# Altium integrated library ZMDI Battery Power Management.IntLib: 25 symbols
Pins are listed as number, name and electrical type; pins without a type are passive.

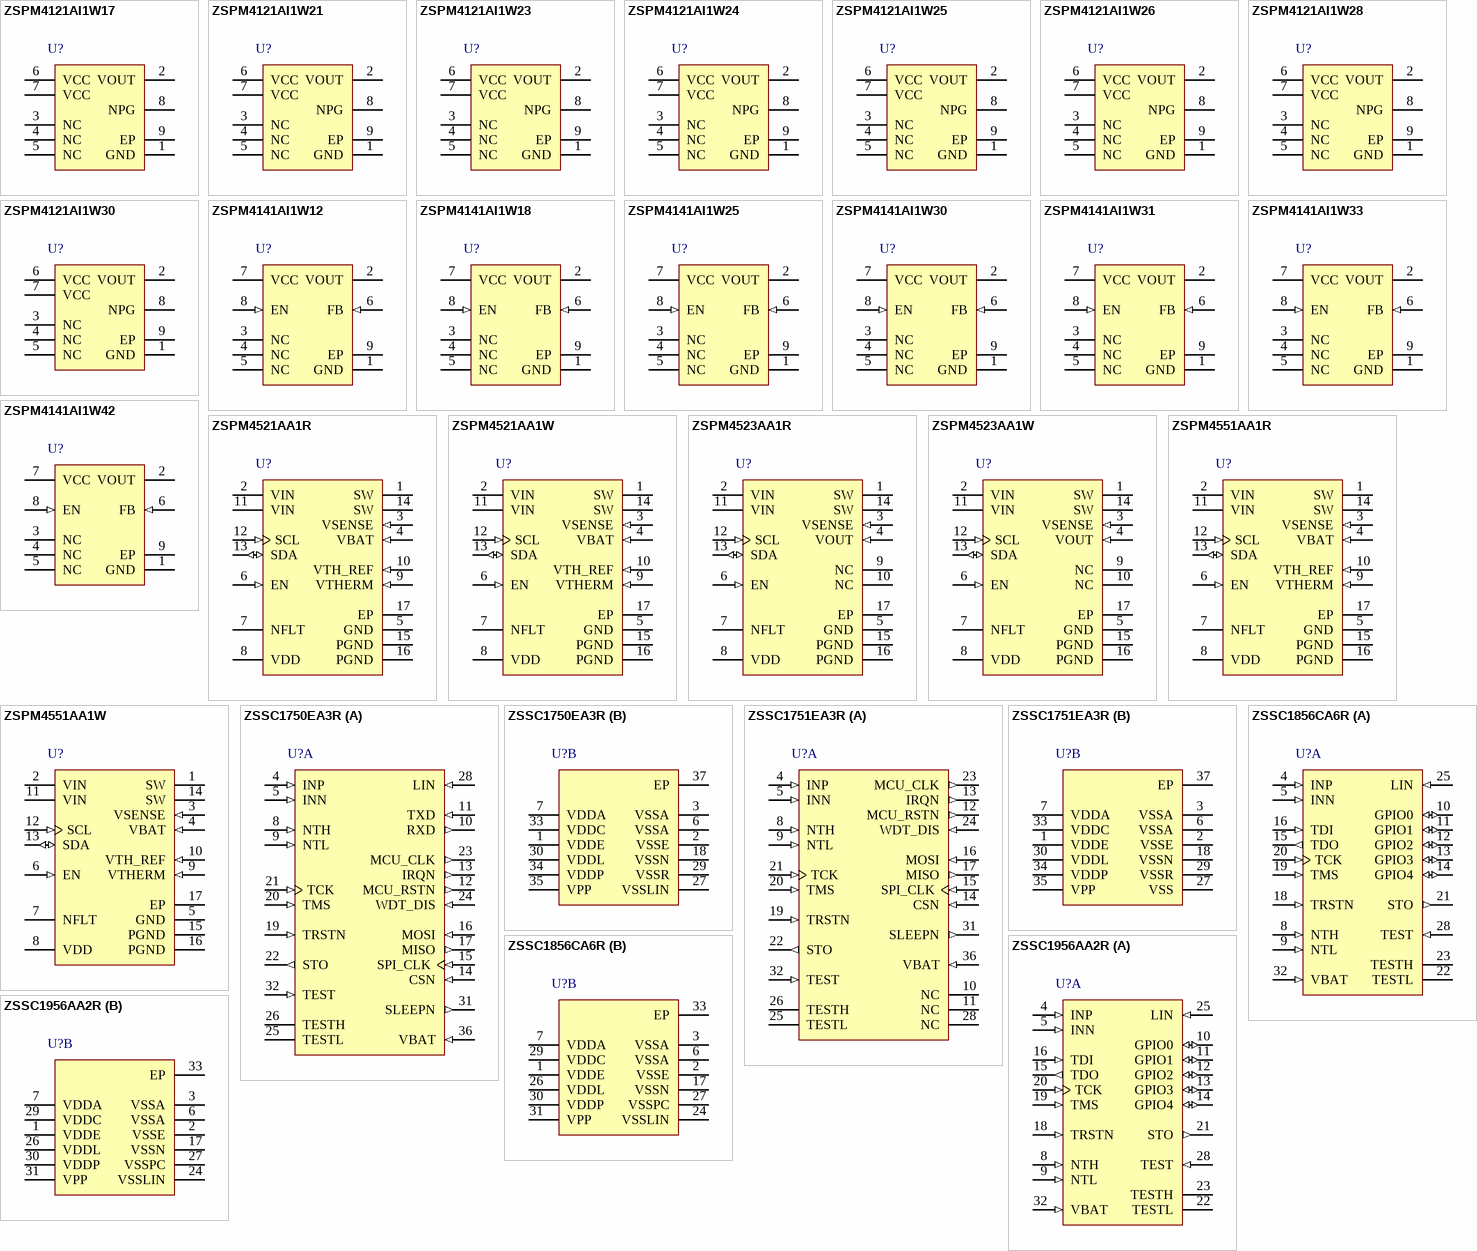
[diagram p0: symbols ZSPM4121AI1W17 to ZSSC1956AA2R]

## ZSPM4121AI1W17
designator U?
Under-Voltage Load Switch for Smart Battery Management, 1.2 to 5.5 V Vin, -20 to 85 degC, 8-Pin DFN, Reel, RoHS; Manufacturer: ZMDI; PartNumber: ZSPM4121AI1W17; Vin Max (V): 5.5; Vin Min (V): 1.2; DatasheetVersion: Rev. 1.01; PackageReference: DFN8; PackageDescription: 8-Pin Dual Flatpack No Leads, 2 x 2 mm Body, 0.5 mm Pitch, 1.7 x 0.9 mm Exposed Pad; Supplier 1: Farnell; Supplier Part Number 1: 2322446; Supplier 2: Newark; Supplier Part Number 2: 95W3775; Supplier 3: Mouser; Supplier Part Number 3: 964-ZSPM4121AI1W17; Packing: Reel; RoHS: TRUE; Mounting Technology: Surface Mount; ComponentLink1Description: Manufacturer URL; ComponentLink1URL: http://www.zmdi.com/; ComponentLink2Description: Datasheet; ComponentLink2URL: http://zmdi.cdistore.com/datasheets/zmdi/ZSPM4121_Data_Sheet_Rev_1_01_2013-02-07.pdf; ComponentLink3Description: Package Specification; ComponentLink3URL: http://zmdi.cdistore.com/datasheets/zmdi/ZSPM4121_Data_Sheet_Rev_1_01_2013-02-07.pdf
footprint ZMDI-DFN8_V (DFN, 8-Leads, Body 2x2mm, Pitch 0.5mm, Thermal Pad 1.7x0.9mm)
pins: 1 GND (power), 2 VOUT (power) "Output to system load", 3 NC "No connection (connect to GND or float)", 4 NC "No connection (connect to GND or float)", 5 NC "No connection (connect to GND or float)", 6 VCC (power) "Supply input (connect to pin 7 and VCC supply rail)", 7 VCC (power) "Supply input (connect to pin 6 and VCC supply rail)", 8 NPG (oc) "Open-drain N-channel output (low indicates “Power Good”)", 9 EP (power)

## ZSPM4121AI1W21
designator U?
Under-Voltage Load Switch for Smart Battery Management, 1.2 to 5.5 V Vin, -20 to 85 degC, 8-Pin DFN, Reel, RoHS; Manufacturer: ZMDI; PartNumber: ZSPM4121AI1W21; Vin Max (V): 5.5; Vin Min (V): 1.2; DatasheetVersion: Rev. 1.01; PackageReference: DFN8; PackageDescription: 8-Pin Dual Flatpack No Leads, 2 x 2 mm Body, 0.5 mm Pitch, 1.7 x 0.9 mm Exposed Pad; Supplier 1: Farnell; Supplier Part Number 1: 2322447; Supplier 2: Newark; Supplier Part Number 2: 95W3776; Supplier 3: Mouser; Supplier Part Number 3: 964-ZSPM4121AI1W21; Packing: Reel; RoHS: TRUE; Mounting Technology: Surface Mount; ComponentLink1Description: Manufacturer URL; ComponentLink1URL: http://www.zmdi.com/; ComponentLink2Description: Datasheet; ComponentLink2URL: http://zmdi.cdistore.com/datasheets/zmdi/ZSPM4121_Data_Sheet_Rev_1_01_2013-02-07.pdf; ComponentLink3Description: Package Specification; ComponentLink3URL: http://zmdi.cdistore.com/datasheets/zmdi/ZSPM4121_Data_Sheet_Rev_1_01_2013-02-07.pdf
footprint ZMDI-DFN8_V (DFN, 8-Leads, Body 2x2mm, Pitch 0.5mm, Thermal Pad 1.7x0.9mm)
pins: 1 GND (power), 2 VOUT (power) "Output to system load", 3 NC "No connection (connect to GND or float)", 4 NC "No connection (connect to GND or float)", 5 NC "No connection (connect to GND or float)", 6 VCC (power) "Supply input (connect to pin 7 and VCC supply rail)", 7 VCC (power) "Supply input (connect to pin 6 and VCC supply rail)", 8 NPG (oc) "Open-drain N-channel output (low indicates “Power Good”)", 9 EP (power)

## ZSPM4121AI1W23
designator U?
Under-Voltage Load Switch for Smart Battery Management, 1.2 to 5.5 V Vin, -20 to 85 degC, 8-Pin DFN, Reel, RoHS; Manufacturer: ZMDI; PartNumber: ZSPM4121AI1W23; Vin Max (V): 5.5; Vin Min (V): 1.2; DatasheetVersion: Rev. 1.01; PackageReference: DFN8; PackageDescription: 8-Pin Dual Flatpack No Leads, 2 x 2 mm Body, 0.5 mm Pitch, 1.7 x 0.9 mm Exposed Pad; Supplier 1: Mouser; Supplier Part Number 1: 964-ZSPM4121AI1W23; Packing: Reel; RoHS: TRUE; Mounting Technology: Surface Mount; ComponentLink1Description: Manufacturer URL; ComponentLink1URL: http://www.zmdi.com/; ComponentLink2Description: Datasheet; ComponentLink2URL: http://zmdi.cdistore.com/datasheets/zmdi/ZSPM4121_Data_Sheet_Rev_1_01_2013-02-07.pdf; ComponentLink3Description: Package Specification; ComponentLink3URL: http://zmdi.cdistore.com/datasheets/zmdi/ZSPM4121_Data_Sheet_Rev_1_01_2013-02-07.pdf
footprint ZMDI-DFN8_V (DFN, 8-Leads, Body 2x2mm, Pitch 0.5mm, Thermal Pad 1.7x0.9mm)
pins: 1 GND (power), 2 VOUT (power) "Output to system load", 3 NC "No connection (connect to GND or float)", 4 NC "No connection (connect to GND or float)", 5 NC "No connection (connect to GND or float)", 6 VCC (power) "Supply input (connect to pin 7 and VCC supply rail)", 7 VCC (power) "Supply input (connect to pin 6 and VCC supply rail)", 8 NPG (oc) "Open-drain N-channel output (low indicates “Power Good”)", 9 EP (power)

## ZSPM4121AI1W24
designator U?
Under-Voltage Load Switch for Smart Battery Management, 1.2 to 5.5 V Vin, -20 to 85 degC, 8-Pin DFN, Reel, RoHS; Manufacturer: ZMDI; PartNumber: ZSPM4121AI1W24; Vin Max (V): 5.5; Vin Min (V): 1.2; DatasheetVersion: Rev. 1.01; PackageReference: DFN8; PackageDescription: 8-Pin Dual Flatpack No Leads, 2 x 2 mm Body, 0.5 mm Pitch, 1.7 x 0.9 mm Exposed Pad; Supplier 1: Mouser; Supplier Part Number 1: 964-ZSPM4121AI1W24; Packing: Reel; RoHS: TRUE; Mounting Technology: Surface Mount; ComponentLink1Description: Manufacturer URL; ComponentLink1URL: http://www.zmdi.com/; ComponentLink2Description: Datasheet; ComponentLink2URL: http://zmdi.cdistore.com/datasheets/zmdi/ZSPM4121_Data_Sheet_Rev_1_01_2013-02-07.pdf; ComponentLink3Description: Package Specification; ComponentLink3URL: http://zmdi.cdistore.com/datasheets/zmdi/ZSPM4121_Data_Sheet_Rev_1_01_2013-02-07.pdf
footprint ZMDI-DFN8_V (DFN, 8-Leads, Body 2x2mm, Pitch 0.5mm, Thermal Pad 1.7x0.9mm)
pins: 1 GND (power), 2 VOUT (power) "Output to system load", 3 NC "No connection (connect to GND or float)", 4 NC "No connection (connect to GND or float)", 5 NC "No connection (connect to GND or float)", 6 VCC (power) "Supply input (connect to pin 7 and VCC supply rail)", 7 VCC (power) "Supply input (connect to pin 6 and VCC supply rail)", 8 NPG (oc) "Open-drain N-channel output (low indicates “Power Good”)", 9 EP (power)

## ZSPM4121AI1W25
designator U?
Under-Voltage Load Switch for Smart Battery Management, 1.2 to 5.5 V Vin, -20 to 85 degC, 8-Pin DFN, Reel, RoHS; Manufacturer: ZMDI; PartNumber: ZSPM4121AI1W25; Vin Max (V): 5.5; Vin Min (V): 1.2; DatasheetVersion: Rev. 1.01; PackageReference: DFN8; PackageDescription: 8-Pin Dual Flatpack No Leads, 2 x 2 mm Body, 0.5 mm Pitch, 1.7 x 0.9 mm Exposed Pad; Supplier 1: Mouser; Supplier Part Number 1: 964-ZSPM4121AI1W25; Packing: Reel; RoHS: TRUE; Mounting Technology: Surface Mount; ComponentLink1Description: Manufacturer URL; ComponentLink1URL: http://www.zmdi.com/; ComponentLink2Description: Datasheet; ComponentLink2URL: http://zmdi.cdistore.com/datasheets/zmdi/ZSPM4121_Data_Sheet_Rev_1_01_2013-02-07.pdf; ComponentLink3Description: Package Specification; ComponentLink3URL: http://zmdi.cdistore.com/datasheets/zmdi/ZSPM4121_Data_Sheet_Rev_1_01_2013-02-07.pdf
footprint ZMDI-DFN8_V (DFN, 8-Leads, Body 2x2mm, Pitch 0.5mm, Thermal Pad 1.7x0.9mm)
pins: 1 GND (power), 2 VOUT (power) "Output to system load", 3 NC "No connection (connect to GND or float)", 4 NC "No connection (connect to GND or float)", 5 NC "No connection (connect to GND or float)", 6 VCC (power) "Supply input (connect to pin 7 and VCC supply rail)", 7 VCC (power) "Supply input (connect to pin 6 and VCC supply rail)", 8 NPG (oc) "Open-drain N-channel output (low indicates “Power Good”)", 9 EP (power)

## ZSPM4121AI1W26
designator U?
Under-Voltage Load Switch for Smart Battery Management, 1.2 to 5.5 V Vin, -20 to 85 degC, 8-Pin DFN, Reel, RoHS; Manufacturer: ZMDI; PartNumber: ZSPM4121AI1W26; Vin Max (V): 5.5; Vin Min (V): 1.2; DatasheetVersion: Rev. 1.01; PackageReference: DFN8; PackageDescription: 8-Pin Dual Flatpack No Leads, 2 x 2 mm Body, 0.5 mm Pitch, 1.7 x 0.9 mm Exposed Pad; Supplier 1: Mouser; Supplier Part Number 1: 964-ZSPM4121AI1W26; Packing: Reel; RoHS: TRUE; Mounting Technology: Surface Mount; ComponentLink1Description: Manufacturer URL; ComponentLink1URL: http://www.zmdi.com/; ComponentLink2Description: Datasheet; ComponentLink2URL: http://zmdi.cdistore.com/datasheets/zmdi/ZSPM4121_Data_Sheet_Rev_1_01_2013-02-07.pdf; ComponentLink3Description: Package Specification; ComponentLink3URL: http://zmdi.cdistore.com/datasheets/zmdi/ZSPM4121_Data_Sheet_Rev_1_01_2013-02-07.pdf
footprint ZMDI-DFN8_V (DFN, 8-Leads, Body 2x2mm, Pitch 0.5mm, Thermal Pad 1.7x0.9mm)
pins: 1 GND (power), 2 VOUT (power) "Output to system load", 3 NC "No connection (connect to GND or float)", 4 NC "No connection (connect to GND or float)", 5 NC "No connection (connect to GND or float)", 6 VCC (power) "Supply input (connect to pin 7 and VCC supply rail)", 7 VCC (power) "Supply input (connect to pin 6 and VCC supply rail)", 8 NPG (oc) "Open-drain N-channel output (low indicates “Power Good”)", 9 EP (power)

## ZSPM4121AI1W28
designator U?
Under-Voltage Load Switch for Smart Battery Management, 1.2 to 5.5 V Vin, -20 to 85 degC, 8-Pin DFN, Reel, RoHS; Manufacturer: ZMDI; PartNumber: ZSPM4121AI1W28; Vin Max (V): 5.5; Vin Min (V): 1.2; DatasheetVersion: Rev. 1.01; PackageReference: DFN8; PackageDescription: 8-Pin Dual Flatpack No Leads, 2 x 2 mm Body, 0.5 mm Pitch, 1.7 x 0.9 mm Exposed Pad; Supplier 1: Mouser; Supplier Part Number 1: 964-ZSPM4121AI1W28; Packing: Reel; RoHS: TRUE; Mounting Technology: Surface Mount; ComponentLink1Description: Manufacturer URL; ComponentLink1URL: http://www.zmdi.com/; ComponentLink2Description: Datasheet; ComponentLink2URL: http://zmdi.cdistore.com/datasheets/zmdi/ZSPM4121_Data_Sheet_Rev_1_01_2013-02-07.pdf; ComponentLink3Description: Package Specification; ComponentLink3URL: http://zmdi.cdistore.com/datasheets/zmdi/ZSPM4121_Data_Sheet_Rev_1_01_2013-02-07.pdf
footprint ZMDI-DFN8_V (DFN, 8-Leads, Body 2x2mm, Pitch 0.5mm, Thermal Pad 1.7x0.9mm)
pins: 1 GND (power), 2 VOUT (power) "Output to system load", 3 NC "No connection (connect to GND or float)", 4 NC "No connection (connect to GND or float)", 5 NC "No connection (connect to GND or float)", 6 VCC (power) "Supply input (connect to pin 7 and VCC supply rail)", 7 VCC (power) "Supply input (connect to pin 6 and VCC supply rail)", 8 NPG (oc) "Open-drain N-channel output (low indicates “Power Good”)", 9 EP (power)

## ZSPM4121AI1W30
designator U?
Under-Voltage Load Switch for Smart Battery Management, 1.2 to 5.5 V Vin, -20 to 85 degC, 8-Pin DFN, Reel, RoHS; Manufacturer: ZMDI; PartNumber: ZSPM4121AI1W30; Vin Max (V): 5.5; Vin Min (V): 1.2; DatasheetVersion: Rev. 1.01; PackageReference: DFN8; PackageDescription: 8-Pin Dual Flatpack No Leads, 2 x 2 mm Body, 0.5 mm Pitch, 1.7 x 0.9 mm Exposed Pad; Supplier 1: Farnell; Supplier Part Number 1: 2322448; Supplier 2: Newark; Supplier Part Number 2: 95W3777; Supplier 3: Mouser; Supplier Part Number 3: 964-ZSPM4121AI1W30; Packing: Reel; RoHS: TRUE; Mounting Technology: Surface Mount; ComponentLink1Description: Manufacturer URL; ComponentLink1URL: http://www.zmdi.com/; ComponentLink2Description: Datasheet; ComponentLink2URL: http://zmdi.cdistore.com/datasheets/zmdi/ZSPM4121_Data_Sheet_Rev_1_01_2013-02-07.pdf; ComponentLink3Description: Package Specification; ComponentLink3URL: http://zmdi.cdistore.com/datasheets/zmdi/ZSPM4121_Data_Sheet_Rev_1_01_2013-02-07.pdf
footprint ZMDI-DFN8_V (DFN, 8-Leads, Body 2x2mm, Pitch 0.5mm, Thermal Pad 1.7x0.9mm)
pins: 1 GND (power), 2 VOUT (power) "Output to system load", 3 NC "No connection (connect to GND or float)", 4 NC "No connection (connect to GND or float)", 5 NC "No connection (connect to GND or float)", 6 VCC (power) "Supply input (connect to pin 7 and VCC supply rail)", 7 VCC (power) "Supply input (connect to pin 6 and VCC supply rail)", 8 NPG (oc) "Open-drain N-channel output (low indicates “Power Good”)", 9 EP (power)

## ZSPM4141AI1W12
designator U?
Ultra-Low-Power Linear Regulator with Minimal Quiescent Current Technology, 2.5 to 5.5 V Operating Voltage, -20 to 85 degC, 8-Pin DFN, Reel, RoHS; Manufacturer: ZMDI; PartNumber: ZSPM4141AI1W12; Over-Current Protection: 250 mA; DatasheetVersion: Rev. 2.00; PackageReference: DFN8; PackageDescription: 8-Pin Dual Flatpack No Leads, 2 x 2 mm Body, 0.5 mm Pitch, 1.7 x 0.9 mm Exposed Pad; Supplier 1: Farnell; Supplier Part Number 1: 2322441; Supplier 2: Newark; Supplier Part Number 2: 95W3778; Supplier 3: Mouser; Supplier Part Number 3: 964-ZSPM4141AI1W12; Low Operating Voltage Range: 2.5 to 5.5 V; Packing: Reel; RoHS: TRUE; Mounting Technology: Surface Mount; ComponentLink1Description: Manufacturer URL; ComponentLink1URL: http://www.zmdi.com/; ComponentLink2Description: Datasheet; ComponentLink2URL: http://www.zmdi.com/sites/default/files/ZSPM4141_Data_Sheet_Rev_2_00_2013-01-11.pdf; ComponentLink3Description: Package Specification; ComponentLink3URL: http://zmdi.cdistore.com/datasheets/zmdi/ZSPM4121_Data_Sheet_Rev_1_01_2013-02-07.pdf
footprint ZMDI-DFN8_V (DFN, 8-Leads, Body 2x2mm, Pitch 0.5mm, Thermal Pad 1.7x0.9mm)
pins: 1 GND (power), 2 VOUT (power) "Regulated Output Voltage", 3 NC "No Connection (connect to GND or float)", 4 NC "No Connection (connect to GND or float)", 5 NC "No Connection (connect to GND or float)", 6 FB (in) "Feedback Input", 7 VCC (power) "Input Power", 8 EN (in) "Enable Input", 9 EP (power)

## ZSPM4141AI1W18
designator U?
Ultra-Low-Power Linear Regulator with Minimal Quiescent Current Technology, 2.5 to 5.5 V Operating Voltage, -20 to 85 degC, 8-Pin DFN, Reel, RoHS; Manufacturer: ZMDI; PartNumber: ZSPM4141AI1W18; Over-Current Protection: 250 mA; DatasheetVersion: Rev. 2.00; PackageReference: DFN8; PackageDescription: 8-Pin Dual Flatpack No Leads, 2 x 2 mm Body, 0.5 mm Pitch, 1.7 x 0.9 mm Exposed Pad; Supplier 1: Farnell; Supplier Part Number 1: 2322442; Supplier 2: Newark; Supplier Part Number 2: 95W3779; Supplier 3: Mouser; Supplier Part Number 3: 964-ZSPM4141AI1W18; Low Operating Voltage Range: 2.5 to 5.5 V; Packing: Reel; RoHS: TRUE; Mounting Technology: Surface Mount; ComponentLink1Description: Manufacturer URL; ComponentLink1URL: http://www.zmdi.com/; ComponentLink2Description: Datasheet; ComponentLink2URL: http://www.zmdi.com/sites/default/files/ZSPM4141_Data_Sheet_Rev_2_00_2013-01-11.pdf; ComponentLink3Description: Package Specification; ComponentLink3URL: http://zmdi.cdistore.com/datasheets/zmdi/ZSPM4121_Data_Sheet_Rev_1_01_2013-02-07.pdf
footprint ZMDI-DFN8_V (DFN, 8-Leads, Body 2x2mm, Pitch 0.5mm, Thermal Pad 1.7x0.9mm)
pins: 1 GND (power), 2 VOUT (power) "Regulated Output Voltage", 3 NC "No Connection (connect to GND or float)", 4 NC "No Connection (connect to GND or float)", 5 NC "No Connection (connect to GND or float)", 6 FB (in) "Feedback Input", 7 VCC (power) "Input Power", 8 EN (in) "Enable Input", 9 EP (power)

## ZSPM4141AI1W25
designator U?
Ultra-Low-Power Linear Regulator with Minimal Quiescent Current Technology, 2.5 to 5.5 V Operating Voltage, -20 to 85 degC, 8-Pin DFN, Reel, RoHS; Manufacturer: ZMDI; PartNumber: ZSPM4141AI1W25; Over-Current Protection: 250 mA; DatasheetVersion: Rev. 2.00; PackageReference: DFN8; PackageDescription: 8-Pin Dual Flatpack No Leads, 2 x 2 mm Body, 0.5 mm Pitch, 1.7 x 0.9 mm Exposed Pad; Supplier 1: Farnell; Supplier Part Number 1: 2322443; Supplier 2: Newark; Supplier Part Number 2: 95W3780; Supplier 3: Mouser; Supplier Part Number 3: 964-ZSPM4141AI1W25; Low Operating Voltage Range: 2.5 to 5.5 V; Packing: Reel; RoHS: TRUE; Mounting Technology: Surface Mount; ComponentLink1Description: Manufacturer URL; ComponentLink1URL: http://www.zmdi.com/; ComponentLink2Description: Datasheet; ComponentLink2URL: http://www.zmdi.com/sites/default/files/ZSPM4141_Data_Sheet_Rev_2_00_2013-01-11.pdf; ComponentLink3Description: Package Specification; ComponentLink3URL: http://zmdi.cdistore.com/datasheets/zmdi/ZSPM4121_Data_Sheet_Rev_1_01_2013-02-07.pdf
footprint ZMDI-DFN8_V (DFN, 8-Leads, Body 2x2mm, Pitch 0.5mm, Thermal Pad 1.7x0.9mm)
pins: 1 GND (power), 2 VOUT (power) "Regulated Output Voltage", 3 NC "No Connection (connect to GND or float)", 4 NC "No Connection (connect to GND or float)", 5 NC "No Connection (connect to GND or float)", 6 FB (in) "Feedback Input", 7 VCC (power) "Input Power", 8 EN (in) "Enable Input", 9 EP (power)

## ZSPM4141AI1W30
designator U?
Ultra-Low-Power Linear Regulator with Minimal Quiescent Current Technology, 2.5 to 5.5 V Operating Voltage, -20 to 85 degC, 8-Pin DFN, Reel, RoHS; Manufacturer: ZMDI; PartNumber: ZSPM4141AI1W30; Over-Current Protection: 250 mA; DatasheetVersion: Rev. 2.00; PackageReference: DFN8; PackageDescription: 8-Pin Dual Flatpack No Leads, 2 x 2 mm Body, 0.5 mm Pitch, 1.7 x 0.9 mm Exposed Pad; Low Operating Voltage Range: 2.5 to 5.5 V; Packing: Reel; RoHS: TRUE; Mounting Technology: Surface Mount; ComponentLink1Description: Manufacturer URL; ComponentLink1URL: http://www.zmdi.com/; ComponentLink2Description: Datasheet; ComponentLink2URL: http://www.zmdi.com/sites/default/files/ZSPM4141_Data_Sheet_Rev_2_00_2013-01-11.pdf; ComponentLink3Description: Package Specification; ComponentLink3URL: http://zmdi.cdistore.com/datasheets/zmdi/ZSPM4121_Data_Sheet_Rev_1_01_2013-02-07.pdf
footprint ZMDI-DFN8_V (DFN, 8-Leads, Body 2x2mm, Pitch 0.5mm, Thermal Pad 1.7x0.9mm)
pins: 1 GND (power), 2 VOUT (power) "Regulated Output Voltage", 3 NC "No Connection (connect to GND or float)", 4 NC "No Connection (connect to GND or float)", 5 NC "No Connection (connect to GND or float)", 6 FB (in) "Feedback Input", 7 VCC (power) "Input Power", 8 EN (in) "Enable Input", 9 EP (power)

## ZSPM4141AI1W31
designator U?
Ultra-Low-Power Linear Regulator with Minimal Quiescent Current Technology, 2.5 to 5.5 V Operating Voltage, -20 to 85 degC, 8-Pin DFN, Reel, RoHS; Manufacturer: ZMDI; PartNumber: ZSPM4141AI1W31; Over-Current Protection: 250 mA; DatasheetVersion: Rev. 2.00; PackageReference: DFN8; PackageDescription: 8-Pin Dual Flatpack No Leads, 2 x 2 mm Body, 0.5 mm Pitch, 1.7 x 0.9 mm Exposed Pad; Low Operating Voltage Range: 2.5 to 5.5 V; Packing: Reel; RoHS: TRUE; Mounting Technology: Surface Mount; ComponentLink1Description: Manufacturer URL; ComponentLink1URL: http://www.zmdi.com/; ComponentLink2Description: Datasheet; ComponentLink2URL: http://www.zmdi.com/sites/default/files/ZSPM4141_Data_Sheet_Rev_2_00_2013-01-11.pdf; ComponentLink3Description: Package Specification; ComponentLink3URL: http://zmdi.cdistore.com/datasheets/zmdi/ZSPM4121_Data_Sheet_Rev_1_01_2013-02-07.pdf
footprint ZMDI-DFN8_V (DFN, 8-Leads, Body 2x2mm, Pitch 0.5mm, Thermal Pad 1.7x0.9mm)
pins: 1 GND (power), 2 VOUT (power) "Regulated Output Voltage", 3 NC "No Connection (connect to GND or float)", 4 NC "No Connection (connect to GND or float)", 5 NC "No Connection (connect to GND or float)", 6 FB (in) "Feedback Input", 7 VCC (power) "Input Power", 8 EN (in) "Enable Input", 9 EP (power)

## ZSPM4141AI1W33
designator U?
Ultra-Low-Power Linear Regulator with Minimal Quiescent Current Technology, 2.5 to 5.5 V Operating Voltage, -20 to 85 degC, 8-Pin DFN, Reel, RoHS; Manufacturer: ZMDI; PartNumber: ZSPM4141AI1W33; Over-Current Protection: 250 mA; DatasheetVersion: Rev. 2.00; PackageReference: DFN8; PackageDescription: 8-Pin Dual Flatpack No Leads, 2 x 2 mm Body, 0.5 mm Pitch, 1.7 x 0.9 mm Exposed Pad; Supplier 1: Farnell; Supplier Part Number 1: 2322445; Supplier 2: Newark; Supplier Part Number 2: 95W3781; Supplier 3: Mouser; Supplier Part Number 3: 964-ZSPM4141AI1W33; Low Operating Voltage Range: 2.5 to 5.5 V; Packing: Reel; RoHS: TRUE; Mounting Technology: Surface Mount; ComponentLink1Description: Manufacturer URL; ComponentLink1URL: http://www.zmdi.com/; ComponentLink2Description: Datasheet; ComponentLink2URL: http://www.zmdi.com/sites/default/files/ZSPM4141_Data_Sheet_Rev_2_00_2013-01-11.pdf; ComponentLink3Description: Package Specification; ComponentLink3URL: http://zmdi.cdistore.com/datasheets/zmdi/ZSPM4121_Data_Sheet_Rev_1_01_2013-02-07.pdf
footprint ZMDI-DFN8_V (DFN, 8-Leads, Body 2x2mm, Pitch 0.5mm, Thermal Pad 1.7x0.9mm)
pins: 1 GND (power), 2 VOUT (power) "Regulated Output Voltage", 3 NC "No Connection (connect to GND or float)", 4 NC "No Connection (connect to GND or float)", 5 NC "No Connection (connect to GND or float)", 6 FB (in) "Feedback Input", 7 VCC (power) "Input Power", 8 EN (in) "Enable Input", 9 EP (power)

## ZSPM4141AI1W42
designator U?
Ultra-Low-Power Linear Regulator with Minimal Quiescent Current Technology, 2.5 to 5.5 V Operating Voltage, -20 to 85 degC, 8-Pin DFN, Reel, RoHS; Manufacturer: ZMDI; PartNumber: ZSPM4141AI1W42; Over-Current Protection: 250 mA; DatasheetVersion: Rev. 2.00; PackageReference: DFN8; PackageDescription: 8-Pin Dual Flatpack No Leads, 2 x 2 mm Body, 0.5 mm Pitch, 1.7 x 0.9 mm Exposed Pad; Supplier 1: Mouser; Supplier Part Number 1: 964-ZSPM4141AI1W42; Low Operating Voltage Range: 2.5 to 5.5 V; Packing: Reel; RoHS: TRUE; Mounting Technology: Surface Mount; ComponentLink1Description: Manufacturer URL; ComponentLink1URL: http://www.zmdi.com/; ComponentLink2Description: Datasheet; ComponentLink2URL: http://www.zmdi.com/sites/default/files/ZSPM4141_Data_Sheet_Rev_2_00_2013-01-11.pdf; ComponentLink3Description: Package Specification; ComponentLink3URL: http://zmdi.cdistore.com/datasheets/zmdi/ZSPM4121_Data_Sheet_Rev_1_01_2013-02-07.pdf
footprint ZMDI-DFN8_V (DFN, 8-Leads, Body 2x2mm, Pitch 0.5mm, Thermal Pad 1.7x0.9mm)
pins: 1 GND (power), 2 VOUT (power) "Regulated Output Voltage", 3 NC "No Connection (connect to GND or float)", 4 NC "No Connection (connect to GND or float)", 5 NC "No Connection (connect to GND or float)", 6 FB (in) "Feedback Input", 7 VCC (power) "Input Power", 8 EN (in) "Enable Input", 9 EP (power)

## ZSPM4521AA1R
designator U?
High-Efficiency Charger for Li-Ion Batteries with Photovoltaic Sources, 4 to 7.2 V Vin, -40 to 125 degC, 16-Pin PQFN, Reel, RoHS; Manufacturer: ZMDI; PartNumber: ZSPM4521AA1R; Max Charge Current (A): 0.05 to 1.5; Type of Charger: Switching; Vin Max (V): 7.2; Vin Min (V): 4; DatasheetVersion: Rev. 1.00; PackageReference: PQFN16; PackageDescription: 16-Pin Plastic Quad Flatpack, No Leads, 4 x 4 mm Body, 0.65 mm Pitch, 2.7 x 2.7 mm Exposed Pad; Supplier 1: Mouser; Supplier Part Number 1: 964-ZSPM4521AA1R; Battery Chemistry: Li-Ion; Packing: Reel; RoHS: TRUE; Mounting Technology: Surface Mount; ComponentLink1Description: Manufacturer URL; ComponentLink1URL: http://www.zmdi.com/; ComponentLink2Description: Datasheet; ComponentLink2URL: http://zmdi.cdistore.com/datasheets/zmdi/ZSPM4521_Data_Sheet_rev_1_00_2013-02-14.pdf; ComponentLink3Description: Package Specification; ComponentLink3URL: http://www.zmdi.com/sites/default/files/ZSPM4551_Data_Sheet_rev_1_00.pdf
footprint ZMDI-PQFN16_N (QFN, 16-Leads, Body 4.00x4.00mm, Pitch 0.65mm, Thermal Pad 2.68x2.68mm, IPC Medium Density)
footprint ZMDI-PQFN16_L (QFN, 16-Leads, Body 4.00x4.00mm, Pitch 0.65mm, Thermal Pad 2.68x2.68mm, IPC High Density)
footprint ZMDI-PQFN16_M (QFN, 16-Leads, Body 4.00x4.00mm, Pitch 0.65mm, Thermal Pad 2.68x2.68mm, IPC Low Density)
pins: 1 SW (power) "Connect to 4.7uH (typical) inductor LOUT. Also connect to additional SW pin 14.", 2 VIN (power) "Input voltage. Also connect to CIN. Also connect to additional VIN pin 11.", 3 VSENSE (in) "Positive input for the current loop.", 4 VBAT (in) "Regulator feedback input.", 5 GND (power) "Primary ground for the majority of the device except the low-side power FET.", 6 EN (in) "When EN is high (>= 2.2V), the device is enabled. Ground the pin to disable the device. Includes internal pull-up.", 7 NFLT (hiz) "Open-drain output.", 8 VDD (power) "Connect to a 100nF capacitor to GND.", 9 VTHERM (in) "Negative node for the thermistor, which must be located in close proximity to the battery.", 10 VTH_REF (in) "Positive node for the thermistor, which must be located in close proximity to the battery.", 11 VIN (power) "Additional VIN pin for input voltage; connect to VIN pin 2.", 12 SCL (in) "I2C? clock input.", 13 SDA (io) "I2C? data (open-drain output).", 14 SW (power) "Additional SW pin; connect to SW pin 1.", 15 PGND (power) "GND supply for internal low-side FET/integrated diode. Also connect to additional PGND pin 16.", 16 PGND (power) "GND supply for internal low-side FET/integrated diode. Also connect to additional PGND pin 15.", 17 EP (power)

## ZSPM4521AA1W
designator U?
High-Efficiency Charger for Li-Ion Batteries with Photovoltaic Sources, 4 to 7.2 V Vin, -40 to 125 degC, 16-Pin PQFN, Reel, RoHS; Manufacturer: ZMDI; PartNumber: ZSPM4521AA1W; Max Charge Current (A): 0.05 to 1.5; Type of Charger: Switching; Vin Max (V): 7.2; Vin Min (V): 4; DatasheetVersion: Rev. 1.00; PackageReference: PQFN16; PackageDescription: 16-Pin Plastic Quad Flatpack, No Leads, 4 x 4 mm Body, 0.65 mm Pitch, 2.7 x 2.7 mm Exposed Pad; Supplier 1: Farnell; Supplier Part Number 1: 2322438; Supplier 2: Newark; Supplier Part Number 2: 05X0152; Supplier 3: Mouser; Supplier Part Number 3: 964-ZSPM4521AA1W; Battery Chemistry: Li-Ion; Packing: Reel; RoHS: TRUE; Mounting Technology: Surface Mount; ComponentLink1Description: Manufacturer URL; ComponentLink1URL: http://www.zmdi.com/; ComponentLink2Description: Datasheet; ComponentLink2URL: http://zmdi.cdistore.com/datasheets/zmdi/ZSPM4521_Data_Sheet_rev_1_00_2013-02-14.pdf; ComponentLink3Description: Package Specification; ComponentLink3URL: http://www.zmdi.com/sites/default/files/ZSPM4551_Data_Sheet_rev_1_00.pdf
footprint ZMDI-PQFN16_N (QFN, 16-Leads, Body 4.00x4.00mm, Pitch 0.65mm, Thermal Pad 2.68x2.68mm, IPC Medium Density)
footprint ZMDI-PQFN16_L (QFN, 16-Leads, Body 4.00x4.00mm, Pitch 0.65mm, Thermal Pad 2.68x2.68mm, IPC High Density)
footprint ZMDI-PQFN16_M (QFN, 16-Leads, Body 4.00x4.00mm, Pitch 0.65mm, Thermal Pad 2.68x2.68mm, IPC Low Density)
pins: 1 SW (power) "Connect to 4.7uH (typical) inductor LOUT. Also connect to additional SW pin 14.", 2 VIN (power) "Input voltage. Also connect to CIN. Also connect to additional VIN pin 11.", 3 VSENSE (in) "Positive input for the current loop.", 4 VBAT (in) "Regulator feedback input.", 5 GND (power) "Primary ground for the majority of the device except the low-side power FET.", 6 EN (in) "When EN is high (>= 2.2V), the device is enabled. Ground the pin to disable the device. Includes internal pull-up.", 7 NFLT (hiz) "Open-drain output.", 8 VDD (power) "Connect to a 100nF capacitor to GND.", 9 VTHERM (in) "Negative node for the thermistor, which must be located in close proximity to the battery.", 10 VTH_REF (in) "Positive node for the thermistor, which must be located in close proximity to the battery.", 11 VIN (power) "Additional VIN pin for input voltage; connect to VIN pin 2.", 12 SCL (in) "I2C? clock input.", 13 SDA (io) "I2C? data (open-drain output).", 14 SW (power) "Additional SW pin; connect to SW pin 1.", 15 PGND (power) "GND supply for internal low-side FET/integrated diode. Also connect to additional PGND pin 16.", 16 PGND (power) "GND supply for internal low-side FET/integrated diode. Also connect to additional PGND pin 15.", 17 EP (power)

## ZSPM4523AA1R
designator U?
High-Efficiency Solar PV MPPT Regulator for Super Capacitor Systems, 3.2 to 7.2 V Vin, -40 to 125 degC, 16-Pin PQFN, Reel, RoHS; Manufacturer: ZMDI; PartNumber: ZSPM4523AA1R; Max Charge Current (A): 0.05 to 1.5; Type of Charger: Switching; Vin Max (V): 7.2; Vin Min (V): 3.2; DatasheetVersion: Rev. 1.00; PackageReference: PQFN16; PackageDescription: 16-Pin Plastic Quad Flatpack, No Leads, 4 x 4 mm Body, 0.65 mm Pitch, 2.7 x 2.7 mm Exposed Pad; Supplier 1: Mouser; Supplier Part Number 1: 964-ZSPM4523AA1R; Packing: Reel; RoHS: TRUE; Mounting Technology: Surface Mount; ComponentLink1Description: Manufacturer URL; ComponentLink1URL: http://www.zmdi.com/; ComponentLink2Description: Datasheet; ComponentLink2URL: http://zmdi.cdistore.com/datasheets/zmdi/ZSPM4523_Data_Sheet_rev_1_00_2013-02-14.pdf; ComponentLink3Description: Package Specification; ComponentLink3URL: http://www.zmdi.com/sites/default/files/ZSPM4551_Data_Sheet_rev_1_00.pdf
footprint ZMDI-PQFN16_N (QFN, 16-Leads, Body 4.00x4.00mm, Pitch 0.65mm, Thermal Pad 2.68x2.68mm, IPC Medium Density)
footprint ZMDI-PQFN16_L (QFN, 16-Leads, Body 4.00x4.00mm, Pitch 0.65mm, Thermal Pad 2.68x2.68mm, IPC High Density)
footprint ZMDI-PQFN16_M (QFN, 16-Leads, Body 4.00x4.00mm, Pitch 0.65mm, Thermal Pad 2.68x2.68mm, IPC Low Density)
pins: 1 SW (power) "Connected to 4.7uH (typical) inductor LOUT. Also connect to additional SW pin 14.", 2 VIN (power) "Input voltage for the photovoltaic cell. Also connect to CIN. Also connect to additional VIN pin 11.", 3 VSENSE (in) "Positive input for the MPPT current loop. Connect to the RSENSE resistor to VOUT and the LOUT inductor to SW.", 4 VOUT (in) "Regulator feedback input. Connect to the RSENSE resistor to VSENSE and the COUT capacitor to ground across the load.", 5 GND (power) "Primary ground for the majority of the device except the low-side power FET.", 6 EN (in) "When EN is high (>= 2.2V), the device is enabled. Ground the pin to disable the device. Includes internal pull-up.", 7 NFLT (hiz) "Open-drain output.", 8 VDD (power) "Connect to a 100nF capacitor to GND.", 9 NC "Ground this pin for applications.", 10 NC "Ground this pin for applications.", 11 VIN (power) "Additional VIN pin for input voltage from the photovoltaic cell; connect to VIN pin 2.", 12 SCL (in) "I2C(TM) clock input.", 13 SDA (io) "I2C(TM) data (open-drain output).", 14 SW (power) "Additional SW pin; connect to SW pin 1.", 15 PGND (power) "GND supply for internal low-side FET/integrated diode. Also connect to additional PGND pin 16.", 16 PGND (power) "GND supply for internal low-side FET/integrated diode. Also connect to additional PGND pin 15.", 17 EP (power)

## ZSPM4523AA1W
designator U?
High-Efficiency Solar PV MPPT Regulator for Super Capacitor Systems, 3.2 to 7.2 V Vin, -40 to 125 degC, 16-Pin PQFN, Reel, RoHS; Manufacturer: ZMDI; PartNumber: ZSPM4523AA1W; Max Charge Current (A): 0.05 to 1.5; Type of Charger: Switching; Vin Max (V): 7.2; Vin Min (V): 3.2; DatasheetVersion: Rev. 1.00; PackageReference: PQFN16; PackageDescription: 16-Pin Plastic Quad Flatpack, No Leads, 4 x 4 mm Body, 0.65 mm Pitch, 2.7 x 2.7 mm Exposed Pad; Supplier 1: Farnell; Supplier Part Number 1: 2322439; Supplier 2: Newark; Supplier Part Number 2: 95W3782; Supplier 3: Mouser; Supplier Part Number 3: 964-ZSPM4523AA1W; Packing: Reel; RoHS: TRUE; Mounting Technology: Surface Mount; ComponentLink1Description: Manufacturer URL; ComponentLink1URL: http://www.zmdi.com/; ComponentLink2Description: Datasheet; ComponentLink2URL: http://zmdi.cdistore.com/datasheets/zmdi/ZSPM4523_Data_Sheet_rev_1_00_2013-02-14.pdf; ComponentLink3Description: Package Specification; ComponentLink3URL: http://www.zmdi.com/sites/default/files/ZSPM4551_Data_Sheet_rev_1_00.pdf
footprint ZMDI-PQFN16_N (QFN, 16-Leads, Body 4.00x4.00mm, Pitch 0.65mm, Thermal Pad 2.68x2.68mm, IPC Medium Density)
footprint ZMDI-PQFN16_L (QFN, 16-Leads, Body 4.00x4.00mm, Pitch 0.65mm, Thermal Pad 2.68x2.68mm, IPC High Density)
footprint ZMDI-PQFN16_M (QFN, 16-Leads, Body 4.00x4.00mm, Pitch 0.65mm, Thermal Pad 2.68x2.68mm, IPC Low Density)
pins: 1 SW (power) "Connected to 4.7uH (typical) inductor LOUT. Also connect to additional SW pin 14.", 2 VIN (power) "Input voltage for the photovoltaic cell. Also connect to CIN. Also connect to additional VIN pin 11.", 3 VSENSE (in) "Positive input for the MPPT current loop. Connect to the RSENSE resistor to VOUT and the LOUT inductor to SW.", 4 VOUT (in) "Regulator feedback input. Connect to the RSENSE resistor to VSENSE and the COUT capacitor to ground across the load.", 5 GND (power) "Primary ground for the majority of the device except the low-side power FET.", 6 EN (in) "When EN is high (>= 2.2V), the device is enabled. Ground the pin to disable the device. Includes internal pull-up.", 7 NFLT (hiz) "Open-drain output.", 8 VDD (power) "Connect to a 100nF capacitor to GND.", 9 NC "Ground this pin for applications.", 10 NC "Ground this pin for applications.", 11 VIN (power) "Additional VIN pin for input voltage from the photovoltaic cell; connect to VIN pin 2.", 12 SCL (in) "I2C(TM) clock input.", 13 SDA (io) "I2C(TM) data (open-drain output).", 14 SW (power) "Additional SW pin; connect to SW pin 1.", 15 PGND (power) "GND supply for internal low-side FET/integrated diode. Also connect to additional PGND pin 16.", 16 PGND (power) "GND supply for internal low-side FET/integrated diode. Also connect to additional PGND pin 15.", 17 EP (power)

## ZSPM4551AA1R
designator U?
High-Efficiency Charger for Li-Ion Batteries, 3.5 to 7.2 V Vin, -40 to 125 degC, 16-Pin PQFN, Reel, RoHS; Manufacturer: ZMDI; PartNumber: ZSPM4551AA1R; Max Charge Current (A): 0.05 to 1.5; Type of Charger: Switching; Vin Max (V): 7.2; Vin Min (V): 3.5; DatasheetVersion: Rev. 1.00; PackageReference: PQFN16; PackageDescription: 16-Pin Plastic Quad Flatpack, No Leads, 4 x 4 mm Body, 0.65 mm Pitch, 2.7 x 2.7 mm Exposed Pad; Supplier 1: Mouser; Supplier Part Number 1: 964-ZSPM4551AA1R; Battery Chemistry: Li-Ion; Packing: Reel; RoHS: TRUE; Mounting Technology: Surface Mount; ComponentLink1Description: Manufacturer URL; ComponentLink1URL: http://www.zmdi.com/; ComponentLink2Description: Datasheet; ComponentLink2URL: http://www.zmdi.com/sites/default/files/ZSPM4551_Data_Sheet_rev_1_00.pdf; ComponentLink3Description: Package Specification; ComponentLink3URL: http://www.zmdi.com/sites/default/files/ZSPM4551_Data_Sheet_rev_1_00.pdf
footprint ZMDI-PQFN16_N (QFN, 16-Leads, Body 4.00x4.00mm, Pitch 0.65mm, Thermal Pad 2.68x2.68mm, IPC Medium Density)
footprint ZMDI-PQFN16_L (QFN, 16-Leads, Body 4.00x4.00mm, Pitch 0.65mm, Thermal Pad 2.68x2.68mm, IPC High Density)
footprint ZMDI-PQFN16_M (QFN, 16-Leads, Body 4.00x4.00mm, Pitch 0.65mm, Thermal Pad 2.68x2.68mm, IPC Low Density)
pins: 1 SW (power) "Connect to 4.7uH (typical) inductor LOUT. Also connect to additional SW pin 14.", 2 VIN (power) "Input voltage. Also connect to CIN. Also connect to additional VIN pin 11.", 3 VSENSE (in) "Positive input for the current loop.", 4 VBAT (in) "Regulator feedback input.", 5 GND (power) "Primary ground for the majority of the device except the low-side power FET.", 6 EN (in) "When EN is high (>= 2.2V), the device is enabled. Ground the pin to disable the device. Includes internal pull-up.", 7 NFLT (hiz) "Open-drain output.", 8 VDD (power) "Connect to a 100nF capacitor to GND.", 9 VTHERM (in) "Negative node for the thermistor, which must be located in close proximity to the battery.", 10 VTH_REF (in) "Positive node for the thermistor, which must be located in close proximity to the battery.", 11 VIN (power) "Additional VIN pin for input voltage; connect to VIN pin 2.", 12 SCL (in) "I2C? clock input.", 13 SDA (io) "I2C? data (open-drain output).", 14 SW (power) "Additional SW pin; connect to SW pin 1.", 15 PGND (power) "GND supply for internal low-side FET/integrated diode. Also connect to additional PGND pin 16.", 16 PGND (power) "GND supply for internal low-side FET/integrated diode. Also connect to additional PGND pin 15.", 17 EP (power)

## ZSPM4551AA1W
designator U?
High-Efficiency Charger for Li-Ion Batteries, 3.5 to 7.2 V Vin, -40 to 125 degC, 16-Pin PQFN, Reel, RoHS; Manufacturer: ZMDI; PartNumber: ZSPM4551AA1W; Max Charge Current (A): 0.05 to 1.5; Type of Charger: Switching; Vin Max (V): 7.2; Vin Min (V): 3.5; DatasheetVersion: Rev. 1.00; PackageReference: PQFN16; PackageDescription: 16-Pin Plastic Quad Flatpack, No Leads, 4 x 4 mm Body, 0.65 mm Pitch, 2.7 x 2.7 mm Exposed Pad; Supplier 1: Farnell; Supplier Part Number 1: 2322440; Supplier 2: Newark; Supplier Part Number 2: 05X0153; Supplier 3: Mouser; Supplier Part Number 3: 964-ZSPM4551AA1W; Battery Chemistry: Li-Ion; Packing: Reel; RoHS: TRUE; Mounting Technology: Surface Mount; ComponentLink1Description: Manufacturer URL; ComponentLink1URL: http://www.zmdi.com/; ComponentLink2Description: Datasheet; ComponentLink2URL: http://www.zmdi.com/sites/default/files/ZSPM4551_Data_Sheet_rev_1_00.pdf; ComponentLink3Description: Package Specification; ComponentLink3URL: http://www.zmdi.com/sites/default/files/ZSPM4551_Data_Sheet_rev_1_00.pdf
footprint ZMDI-PQFN16_N (QFN, 16-Leads, Body 4.00x4.00mm, Pitch 0.65mm, Thermal Pad 2.68x2.68mm, IPC Medium Density)
footprint ZMDI-PQFN16_L (QFN, 16-Leads, Body 4.00x4.00mm, Pitch 0.65mm, Thermal Pad 2.68x2.68mm, IPC High Density)
footprint ZMDI-PQFN16_M (QFN, 16-Leads, Body 4.00x4.00mm, Pitch 0.65mm, Thermal Pad 2.68x2.68mm, IPC Low Density)
pins: 1 SW (power) "Connect to 4.7uH (typical) inductor LOUT. Also connect to additional SW pin 14.", 2 VIN (power) "Input voltage. Also connect to CIN. Also connect to additional VIN pin 11.", 3 VSENSE (in) "Positive input for the current loop.", 4 VBAT (in) "Regulator feedback input.", 5 GND (power) "Primary ground for the majority of the device except the low-side power FET.", 6 EN (in) "When EN is high (>= 2.2V), the device is enabled. Ground the pin to disable the device. Includes internal pull-up.", 7 NFLT (hiz) "Open-drain output.", 8 VDD (power) "Connect to a 100nF capacitor to GND.", 9 VTHERM (in) "Negative node for the thermistor, which must be located in close proximity to the battery.", 10 VTH_REF (in) "Positive node for the thermistor, which must be located in close proximity to the battery.", 11 VIN (power) "Additional VIN pin for input voltage; connect to VIN pin 2.", 12 SCL (in) "I2C? clock input.", 13 SDA (io) "I2C? data (open-drain output).", 14 SW (power) "Additional SW pin; connect to SW pin 1.", 15 PGND (power) "GND supply for internal low-side FET/integrated diode. Also connect to additional PGND pin 16.", 16 PGND (power) "GND supply for internal low-side FET/integrated diode. Also connect to additional PGND pin 15.", 17 EP (power)

## ZSSC1750EA3R
designator U?
Data Acquisition System Basis Chip, 3.6 to 28.8 V Supply Voltage, -40 to 125 degC, 36-Pin PQFN, Reel, RoHS; Manufacturer: ZMDI; PartNumber: ZSSC1750EA3R; Vin Max (V): 28.8; Vin Min (V): 3.6; DatasheetVersion: Rev. 0.1; PackageReference: PQFN36; PackageDescription: 36-Pin Plastic Quad Flatpack, No Leads, 6 x 6 mm Body, 0.5 mm Pitch, 3.7 x 3.7 mm Exposed Pad; Packing: Reel; RoHS: TRUE; Mounting Technology: Surface Mount; ComponentLink1Description: Manufacturer URL; ComponentLink1URL: http://www.zmdi.com/
footprint ZMDI-PQFN36_N (QFN, 36-Leads, Body 6.1x6.1mm, Pitch 0.5mm, Thermal Pad 3.7x3.7mm, IPC Medium Density)
footprint ZMDI-PQFN36_L (QFN, 36-Leads, Body 6.1x6.1mm, Pitch 0.5mm, Thermal Pad 3.7x3.7mm, IPC High Density)
footprint ZMDI-PQFN36_M (QFN, 36-Leads, Body 6.1x6.1mm, Pitch 0.5mm, Thermal Pad 3.7x3.7mm, IPC Low Density)
part A pins: 4 INP (in) "Positive input for current channel", 5 INN (in) "Negative input for current channel", 8 NTH (in) "Positive input for the temperature channel", 9 NTL (in) "Negative input for the temperature channel", 10 RXD (out) "LIN receiver output for ZSSC1750", 11 TXD (in) "LIN transmitter input for ZSSC1750", 12 MCU_RSTN (out) "Reset for external MCU", 13 IRQN (out) "Interrupt for external MCU", 14 CSN (in) "SPI chip select", 15 SPI_CLK (in) "SPI clock", 16 MOSI (in) "SPI Master output, Slave input", 17 MISO (out) "SPI Master input, Slave output", 19 TRSTN (in) "Test interface", 20 TMS (in) "Test interface", 21 TCK (in) "Test interface", 22 STO (out) "Test interface", 23 MCU_CLK (out) "Clock signal to external MCU (20MHz)", 24 WDT_DIS (in) "Watchdog timer disable pin", 25 TESTL "Test interface", 26 TESTH "Test interface", 28 LIN (in) "LIN bus for ZSSC1750", 31 SLEEPN (out) "SBC power state indicator pin", 32 TEST (in) "Test interface enable. Connect to ground in application", 36 VBAT (in) "Input for battery voltage monitor"
part B pins: 1 VDDE (power) "Power supply", 2 VSSE (power) "Power ground", 3 VSSA (power) "Analog voltage ground", 6 VSSA (power) "Analog voltage ground", 7 VDDA (power) "Analog voltage supply", 18 VSSN (power) "Digital voltage ground", 27 VSSLIN (power) "LIN ground for ZSSC1750", 29 VSSR (power) "Power ground", 30 VDDL (power) "SBC digital core supply", 33 VDDC (power) "External MCU supply voltage (core)", 34 VDDP (power) "External MCU supply voltage (periphery)", 35 VPP (power) "OTP programming voltage", 37 EP (power) "Connect to VSSE in application"

## ZSSC1751EA3R
designator U?
Data Acquisition System Basis Chip, 3.6 to 28.8 V Supply Voltage, -40 to 125 degC, 36-Pin PQFN, Reel, RoHS; Manufacturer: ZMDI; PartNumber: ZSSC1751EA3R; Vin Max (V): 28.8; Vin Min (V): 3.6; DatasheetVersion: Rev. 0.1; PackageReference: PQFN36; PackageDescription: 36-Pin Plastic Quad Flatpack, No Leads, 6 x 6 mm Body, 0.5 mm Pitch, 3.7 x 3.7 mm Exposed Pad; Packing: Reel; RoHS: TRUE; Mounting Technology: Surface Mount; ComponentLink1Description: Manufacturer URL; ComponentLink1URL: http://www.zmdi.com/
footprint ZMDI-PQFN36_N (QFN, 36-Leads, Body 6.1x6.1mm, Pitch 0.5mm, Thermal Pad 3.7x3.7mm, IPC Medium Density)
footprint ZMDI-PQFN36_L (QFN, 36-Leads, Body 6.1x6.1mm, Pitch 0.5mm, Thermal Pad 3.7x3.7mm, IPC High Density)
footprint ZMDI-PQFN36_M (QFN, 36-Leads, Body 6.1x6.1mm, Pitch 0.5mm, Thermal Pad 3.7x3.7mm, IPC Low Density)
part A pins: 4 INP (in) "Positive input for current channel", 5 INN (in) "Negative input for current channel", 8 NTH (in) "Positive input for the temperature channel", 9 NTL (in) "Negative input for the temperature channel", 10 NC "Not used in ZSSC1751. Keep open", 11 NC "Not used in ZSSC1751. Connect to VDDP", 12 MCU_RSTN (out) "Reset for external MCU", 13 IRQN (out) "Interrupt for external MCU", 14 CSN (in) "SPI chip select", 15 SPI_CLK (in) "SPI clock", 16 MOSI (in) "SPI Master output, Slave input", 17 MISO (out) "SPI Master input, Slave output", 19 TRSTN (in) "Test interface", 20 TMS (in) "Test interface", 21 TCK (in) "Test interface", 22 STO (out) "Test interface", 23 MCU_CLK (out) "Clock signal to external MCU (20MHz)", 24 WDT_DIS (in) "Watchdog timer disable pin", 25 TESTL "Test interface", 26 TESTH "Test interface", 28 NC (hiz) "Not used in ZSSC1751. Keep open", 31 SLEEPN (out) "SBC power state indicator pin", 32 TEST (in) "Test interface enable. Connect to ground in application", 36 VBAT (in) "Input for battery voltage monitor"
part B pins: 1 VDDE (power) "Power supply", 2 VSSE (power) "Power ground", 3 VSSA (power) "Analog voltage ground", 6 VSSA (power) "Analog voltage ground", 7 VDDA (power) "Analog voltage supply", 18 VSSN (power) "Digital voltage ground", 27 VSS (power) "Power ground for ZSSC1751", 29 VSSR (power) "Power ground", 30 VDDL (power) "SBC digital core supply", 33 VDDC (power) "External MCU supply voltage (core)", 34 VDDP (power) "External MCU supply voltage (periphery)", 35 VPP (power) "OTP programming voltage", 37 EP (power) "Connect to VSSE in application"

## ZSSC1856CA6R
designator U?
Intelligent Battery Sensor IC, 4 to 28.8 V Vin, -40 to 125 degC, 32-Pin PQFN, Reel, RoHS; Manufacturer: ZMDI; PartNumber: ZSSC1856CA6R; Vin Max (V): 28.8; Vin Min (V): 4; DatasheetVersion: Rev. 1.00; PackageReference: PQFN32; PackageDescription: 32-Pin Plastic Quad Flatpack, No Leads, 5 x 5 mm Body, 0.5 mm Pitch, 3.5 x 3.5 mm Exposed Pad; Supplier 1: Mouser; Supplier Part Number 1: 964-ZSSC1856CA6R; Packing: Reel; RoHS: TRUE; Mounting Technology: Surface Mount; ComponentLink1Description: Manufacturer URL; ComponentLink1URL: http://www.zmdi.com/; ComponentLink2Description: Datasheet; ComponentLink2URL: http://www.zmdi.com/sites/default/files/ZSSC1856_IBS_ZMDI_Datasheet_rev1_00.pdf; ComponentLink3Description: Package Specification; ComponentLink3URL: http://www.zmdi.com/sites/default/files/ZSSC1856_IBS_ZMDI_Datasheet_rev1_00.pdf
footprint ZMDI-PQFN32_N (QFN, 32-Leads, Body 5.1x5.1mm, Pitch 0.5mm, Thermal Pad 3.5x3.5mm, IPC Medium Density)
footprint ZMDI-PQFN32_L (QFN, 32-Leads, Body 5.1x5.1mm, Pitch 0.5mm, Thermal Pad 3.5x3.5mm, IPC High Density)
footprint ZMDI-PQFN32_M (QFN, 32-Leads, Body 5.1x5.1mm, Pitch 0.5mm, Thermal Pad 3.5x3.5mm, IPC Low Density)
part A pins: 4 INP (in) "Positive input for current channel", 5 INN (in) "Negative input for current channel", 8 NTH (in) "Positive input for the temperature channel", 9 NTL (in) "Negative input for the temperature channel", 10 GPIO0 (io) "General purpose I/O", 11 GPIO1 (io) "General purpose I/O", 12 GPIO2 (io) "General purpose I/O", 13 GPIO3 (io) "General purpose I/O", 14 GPIO4 (io) "General purpose I/O", 15 TDO (out) "JTAG output", 16 TDI (in) "JTAG input", 18 TRSTN (in) "JTAG input", 19 TMS (in) "JTAG input", 20 TCK (in) "JTAG input", 21 STO (out) "Test data output", 22 TESTL "No connection", 23 TESTH "No connection", 25 LIN (in) "LIN input", 28 TEST (in) "Test input", 32 VBAT (in) "Input for battery voltage monitor"
part B pins: 1 VDDE (power) "Power supply", 2 VSSE (power) "Power ground", 3 VSSA (power) "Analog voltage ground", 6 VSSA (power) "Analog voltage ground", 7 VDDA (power) "Analog voltage supply", 17 VSSN (power) "Digital voltage ground", 24 VSSLIN (power) "Ground for LIN", 26 VDDL (power) "SBC core supply and MCU RAM supply", 27 VSSPC (power) "Ground for MCU (periphery and core blocks)", 29 VDDC (power) "MCU core supply voltage", 30 VDDP (power) "Supply voltage I/O", 31 VPP (power) "OTP programming voltage", 33 EP

## ZSSC1956AA2R
designator U?
Intelligent Battery Sensor IC, 4.2 to 28.8 V Supply Voltage, -40 to 125 degC, 32-Pin PQFN, Reel, RoHS; Manufacturer: ZMDI; PartNumber: ZSSC1956AA2R; Vin Max (V): 28.8; Vin Min (V): 4; DatasheetVersion: Rev. 1.04; PackageReference: PQFN32; PackageDescription: 32-Pin Plastic Quad Flatpack, No Leads, 5 x 5 mm Body, 0.5 mm Pitch, 3.5 x 3.5 mm Exposed Pad; Packing: Reel; RoHS: TRUE; Mounting Technology: Surface Mount; ComponentLink1Description: Manufacturer URL; ComponentLink1URL: http://www.zmdi.com/; ComponentLink2Description: Datasheet; ComponentLink2URL: http://www.zmdi.com/sites/default/files/ZSSC1956_IBS_ZMDI_Data_Sheet_rev1_04_2014-05-19.pdf
footprint ZMDI-PQFN32_N (QFN, 32-Leads, Body 5.1x5.1mm, Pitch 0.5mm, Thermal Pad 3.5x3.5mm, IPC Medium Density)
footprint ZMDI-PQFN32_L (QFN, 32-Leads, Body 5.1x5.1mm, Pitch 0.5mm, Thermal Pad 3.5x3.5mm, IPC High Density)
footprint ZMDI-PQFN32_M (QFN, 32-Leads, Body 5.1x5.1mm, Pitch 0.5mm, Thermal Pad 3.5x3.5mm, IPC Low Density)
part A pins: 4 INP (in) "Positive input for current channel", 5 INN (in) "Negative input for current channel", 8 NTH (in) "Positive input for the temperature channel", 9 NTL (in) "Negative input for the temperature channel", 10 GPIO0 (io) "General purpose I/O", 11 GPIO1 (io) "General purpose I/O", 12 GPIO2 (io) "General purpose I/O", 13 GPIO3 (io) "General purpose I/O", 14 GPIO4 (io) "General purpose I/O", 15 TDO (out) "JTAG output", 16 TDI (in) "JTAG input", 18 TRSTN (in) "JTAG input", 19 TMS (in) "JTAG input", 20 TCK (in) "JTAG input", 21 STO (out) "Test data output", 22 TESTL "No connection", 23 TESTH "No connection", 25 LIN (in) "LIN input", 28 TEST (in) "Test input", 32 VBAT (in) "Input for battery voltage monitor"
part B pins: 1 VDDE (power) "Power supply", 2 VSSE (power) "Power ground", 3 VSSA (power) "Analog voltage ground", 6 VSSA (power) "Analog voltage ground", 7 VDDA (power) "Analog voltage supply", 17 VSSN (power) "Digital voltage ground", 24 VSSLIN (power) "Ground for LIN", 26 VDDL (power) "SBC core supply and MCU RAM supply", 27 VSSPC (power) "Ground for MCU (periphery and core blocks)", 29 VDDC (power) "MCU core supply voltage", 30 VDDP (power) "Supply voltage I/O", 31 VPP (power) "OTP programming voltage", 33 EP